# EAGLE library part LTC1966 (library linear-technology)
RMS-to-DC Converter
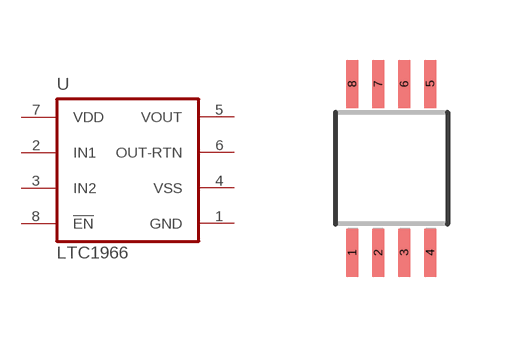
[diagram p30: symbol with the pads of MSOP08; footprint MSOP08]

Designator prefix U

## LTC1966MS8 (P1I: o)  [MSOP08]
1  GND  pwr
2  IN1  in
3  IN2  in
4  VSS  pwr
5  VOUT  out
6  OUT-RTN  pas
7  VDD  pwr
8  !EN!  in

## Footprint MSOP08 (pad centres in mm)
Mini Small Outline Package
smd 0.3 x 1.2: 1 -0.976,-2.113; 2 -0.326,-2.113; 3 0.324,-2.113; 4 0.974,-2.113; 5 0.974,2.112; 6 0.324,2.112; 7 -0.326,2.112; 8 -0.976,2.112